# EAGLE library part SMD-BOX-HEADER-WHITE(2X5P-2.0) (library Seeed-OPL-Connector)
320150012
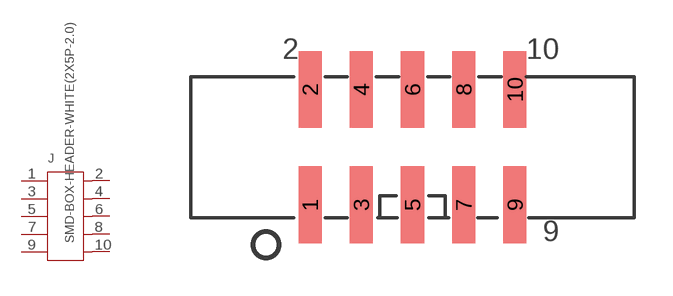
[diagram p102: symbol with the pads of BOX2X5-SMD-2.0; footprint BOX2X5-SMD-2.0]

Designator prefix J

## SMD-BOX-HEADER-WHITE(2X5P-2.0) (MPN: B257-110B0BMBB; VALUE: 2x5p-2.0)  [BOX2X5-SMD-2.0]
1  P$1
2  P$2
3  P$3
4  P$4
5  P$5
6  P$6
7  P$7
8  P$8
9  P$9
10  P$10

## Footprint BOX2X5-SMD-2.0 (pad centres in mm)
smd 0.9 x 3: 1 -4,-2.25; 2 -4,2.25; 3 -2,-2.25; 4 -2,2.25; 5 0,-2.25; 6 0,2.25; 7 2,-2.25; 8 2,2.25; 9 4,-2.25; 10 4,2.25